# Altium footprint library Components_Lib.PcbLib: 4 footprints
Each footprint in its own frame and in the unit in brackets; x right, y up, seen from the top. Pads: shape width x height; smd on the part's side, far side on the other; paste and mask are expansions set on the pad; w line width, h text height; cw(c..) or ccw(c..) is an arc to the next point about the centre after c.
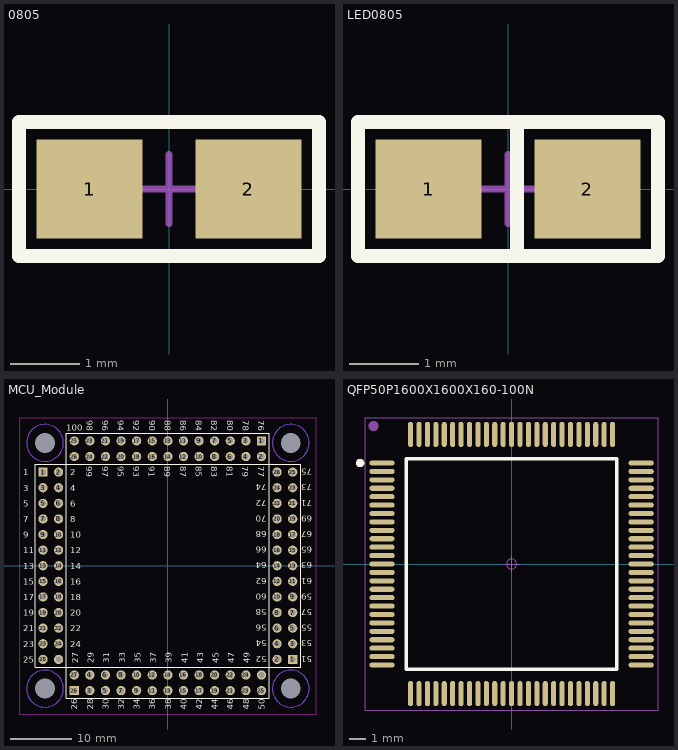
[diagram p0: the footprints below, top view; thin cyan lines are the x and y axes]

## 0805 [mil] "Pasivo 0805"
height 27.56
pads (2):
  rect 60x56 smd: 1(-45,0) 2(45,0)
Top Overlay:
  lines w7.87: -85,-38 85,-38 85,38 -85,38 -85,-38
Mechanical 15:
  lines w3.94: -19.69,0 19.68,0 ; 0,-19.68 0,19.68
3D body "0805.STEP": height 15.35, standoff -0.79, extent -39.5,-24.5 39.24,24.71

## LED0805 [mil] "LED SMD 0805"
height 27.56
pads (2):
  rect 60x56 smd: 1(-45,0) 2(45,0)
Top Overlay:
  lines w7.87: 5,-38 5,38 ; -85,-38 85,-38 85,38 -85,38 -85,-38
Mechanical 15:
  lines w3.94: -19.69,0 19.68,0 ; 0,-19.68 0,19.68
3D body "LED0805.step": height 33.45, standoff 0.23, extent -40.6,-17.68 40.6,18

## MCU_Module [mm]
pads (108):
  round 0 hole 3.25: 0(-20,-20) 0(-20,20) 0(20,-20) 0(20,20)
  rect 1.5x1.5 hole 0.9: 1(-20.32,15.24) 1(15.24,20.32) 1(20.32,-15.24) 26(-15.24,-20.32)
  round 1.5 hole 0.9: 2(-17.78,15.24) 2(15.24,17.78) 2(17.78,-15.24) 3(-20.32,12.7) 3(-12.7,-20.32) 3(12.7,20.32) 3(20.32,-12.7) 4(-17.78,12.7) 4(-12.7,-17.78) 4(12.7,17.78) 4(17.78,-12.7) 5(-20.32,10.16) 5(-10.16,-20.32) 5(10.16,20.32) 5(20.32,-10.16) 6(-17.78,10.16) 6(-10.16,-17.78) 6(10.16,17.78) 6(17.78,-10.16) 7(-20.32,7.62) 7(-7.62,-20.32) 7(7.62,20.32) 7(20.32,-7.62) 8(-17.78,7.62) 8(-7.62,-17.78) 8(7.62,17.78) 8(17.78,-7.62) 9(-20.32,5.08) 9(-5.08,-20.32) 9(5.08,20.32) 9(20.32,-5.08) 10(-17.78,5.08) 10(-5.08,-17.78) 10(5.08,17.78) 10(17.78,-5.08) 11(-20.32,2.54) 11(-2.54,-20.32) 11(2.54,20.32) 11(20.32,-2.54) 12(-17.78,2.54) 12(-2.54,-17.78) 12(2.54,17.78) 12(17.78,-2.54) 13(-20.32,0) 13(0,-20.32) 13(0,20.32) 13(20.32,0) 14(-17.78,0) 14(0,-17.78) 14(0,17.78) 14(17.78,0) 15(-20.32,-2.54) 15(-2.54,20.32) 15(2.54,-20.32) 15(20.32,2.54) 16(-17.78,-2.54) 16(-2.54,17.78) 16(2.54,-17.78) 16(17.78,2.54) 17(-20.32,-5.08) 17(-5.08,20.32) 17(5.08,-20.32) 17(20.32,5.08) 18(-17.78,-5.08) 18(-5.08,17.78) 18(5.08,-17.78) 18(17.78,5.08) 19(-20.32,-7.62) 19(-7.62,20.32) 19(7.62,-20.32) 19(20.32,7.62) 20(-17.78,-7.62) 20(-7.62,17.78) 20(7.62,-17.78) 20(17.78,7.62) 21(-20.32,-10.16) 21(-10.16,20.32) 21(10.16,-20.32) 21(20.32,10.16) 22(-17.78,-10.16) 22(-10.16,17.78) 22(10.16,-17.78) 22(17.78,10.16) 23(-20.32,-12.7) 23(-12.7,20.32) 23(12.7,-20.32) 23(20.32,12.7) 24(-17.78,-12.7) 24(-12.7,17.78) 24(12.7,-17.78) 24(17.78,12.7) 25(-20.32,-15.24) 25(-15.24,20.32) 25(15.24,-20.32) 25(20.32,15.24) 26(-15.24,17.78) 26(17.78,15.24) 27(-15.24,-17.78) ""(-17.78,-15.24) ""(15.24,-17.78)
Bottom Layer keep-out:
  circle w0.15: c20,-20 r3
  circle w0.15: c20,20 r3
  circle w0.15: c-20,20 r3
  circle w0.15: c-20,-20 r3
Top Overlay:
  lines w0.2: -16.51,-16.51 -21.59,-16.51 -21.59,16.51 -16.51,16.51 ; -16.51,-16.51 -16.51,16.51 ; -16.51,-16.51 -16.51,-21.59 16.51,-21.59 16.51,-16.51 ; -16.51,-16.51 16.51,-16.51 ; -16.51,16.51 -16.51,21.59 16.51,21.59 16.51,16.51 ; -16.51,16.51 16.51,16.51 ; 16.51,-16.51 21.59,-16.51 21.59,16.51 16.51,16.51 ; 16.51,-16.51 16.51,16.51
  text "49" at 13.36,-15.9 h1
  text "47" at 10.82,-15.9 h1
  text "50" at 15.76,-23.4 h1
  text "48" at 13.22,-23.4 h1
  text "46" at 10.68,-23.4 h1
  text "45" at 8.28,-15.9 h1
  text "44" at 8.14,-23.4 h1
  text "43" at 5.74,-15.9 h1
  text "42" at 5.6,-23.4 h1
  text "41" at 3.2,-15.9 h1
  text "40" at 3.06,-23.4 h1
  text "39" at 0.66,-15.9 h1
  text "38" at 0.52,-23.4 h1
  text "37" at -1.88,-15.9 h1
  text "36" at -2.02,-23.4 h1
  text "35" at -4.42,-15.9 h1
  text "34" at -4.56,-23.4 h1
  text "33" at -6.96,-15.9 h1
  text "32" at -7.1,-23.4 h1
  text "31" at -9.5,-15.9 h1
  text "30" at -9.64,-23.4 h1
  text "28" at -12.18,-23.4 h1
  text "27" at -14.58,-15.9 h1
  text "1" at -23.5,14.7 h1
  text "25" at -23.5,-15.78 h1
  text "24" at -15.9,-13.24 h1
  text "23" at -23.5,-13.24 h1
  text "22" at -15.9,-10.7 h1
  text "21" at -23.5,-10.7 h1
  text "20" at -15.9,-8.16 h1
  text "19" at -23.5,-8.16 h1
  text "18" at -15.9,-5.62 h1
  text "17" at -23.5,-5.62 h1
  text "16" at -15.9,-3.08 h1
  text "15" at -23.5,-3.08 h1
  text "14" at -15.9,-0.54 h1
  text "13" at -23.5,-0.54 h1
  text "12" at -15.9,2 h1
  text "11" at -23.5,2 h1
  text "10" at -15.9,4.54 h1
  text "9" at -23.5,4.54 h1
  text "8" at -15.9,7.08 h1
  text "7" at -23.5,7.08 h1
  text "6" at -15.9,9.62 h1
  text "5" at -23.5,9.62 h1
  text "4" at -15.9,12.16 h1
  text "3" at -23.5,12.16 h1
  text "2" at -15.9,14.7 h1
  text "76" at 14.72,23.7 h1
  text "77" at 14.68,16.2 h1
  text "78" at 12.18,23.7 h1
  text "79" at 12.14,16.2 h1
  text "80" at 9.64,23.7 h1
  text "81" at 9.6,16.2 h1
  text "82" at 7.1,23.7 h1
  text "83" at 7.06,16.2 h1
  text "84" at 4.56,23.7 h1
  text "85" at 4.52,16.2 h1
  text "86" at 2.02,23.7 h1
  text "87" at 1.98,16.2 h1
  text "88" at -0.52,23.7 h1
  text "89" at -0.56,16.2 h1
  text "90" at -3.06,23.7 h1
  text "91" at -3.1,16.2 h1
  text "92" at -5.6,23.7 h1
  text "93" at -5.64,16.2 h1
  text "94" at -8.14,23.7 h1
  text "95" at -8.18,16.2 h1
  text "96" at -10.68,23.7 h1
  text "97" at -10.72,16.2 h1
  text "98" at -13.22,23.7 h1
  text "99" at -13.26,16.2 h1
  text "100" at -16.5,22 h1
  text "52" at 16.1,-14.7 h1
  text "53" at 23.5,-12.16 h1
  text "54" at 16.1,-12.16 h1
  text "55" at 23.5,-9.62 h1
  text "56" at 16.1,-9.62 h1
  text "57" at 23.5,-7.08 h1
  text "58" at 16.1,-7.08 h1
  text "59" at 23.5,-4.54 h1
  text "60" at 16.1,-4.54 h1
  text "61" at 23.5,-2 h1
  text "62" at 16.1,-2 h1
  text "63" at 23.5,0.54 h1
  text "64" at 16.1,0.54 h1
  text "65" at 23.5,3.08 h1
  text "66" at 16.1,3.08 h1
  text "67" at 23.5,5.62 h1
  text "68" at 16.1,5.62 h1
  text "69" at 23.5,8.16 h1
  text "70" at 16.1,8.16 h1
  text "71" at 23.5,10.7 h1
  text "72" at 16.1,10.7 h1
  text "73" at 23.5,13.24 h1
  text "74" at 16.1,13.24 h1
  text "75" at 23.5,15.78 h1
  text "51" at 23.5,-14.7 h1
  text "29" at -12.04,-15.9 h1
  text "26" at -14.72,-23.4 h1
Bottom Overlay:
  lines w0.15: -7.6,-5.43 -7.2,-5.43 ; -7.6,-4.63 -7.2,-4.63 ; -7.6,-3.83 -7.2,-3.83 ; -7.6,-3.03 -7.2,-3.03 ; -7.6,-0.83 -7.2,-0.83 ; -7.6,-0.03 -7.2,-0.03 ; -7.6,0.77 -7.2,0.77 ; -7.6,1.57 -7.2,1.57 ; -7.6,2.87 -7.2,2.87 ; -7.6,3.67 -7.2,3.67 ; -5.7,-7.63 -5.7,-7.23 ; -4.9,-7.63 -4.9,-7.23 ; -4.1,-7.63 -4.1,-7.23 ; -3.3,-7.63 -3.3,-7.23 ; -0.9,7.17 -0.9,7.57 ; -0.1,7.17 -0.1,7.57 ; 0.4,-7.73 0.4,-7.33 ; 1.2,-7.73 1.2,-7.33 ; 4.5,-5.9 4.9,-5.9 ; 4.5,-5.1 4.9,-5.1 ; 7.1,-0.93 7.5,-0.93 ; 7.1,-0.13 7.5,-0.13 ; 7.1,6.17 7.5,6.17 ; 7.1,6.97 7.5,6.97
Keep-Out Layer:
  lines w0.2: -24.13,-24.13 -24.13,24.13 24.13,24.13 24.13,-24.13 -24.13,-24.13

## QFP50P1600X1600X160-100N [mm] "QFP,0.50mm pitch,square;100 pin,14.00mm L X 14.00mm W X 1.60mm H body"
height 1.6
pads (100):
  oval 1.5x0.3 smd: 1(-7.7,6) 2(-7.7,5.5) 3(-7.7,5) 4(-7.7,4.5) 5(-7.7,4) 6(-7.7,3.5) 7(-7.7,3) 8(-7.7,2.5) 9(-7.7,2) 10(-7.7,1.5) 11(-7.7,1) 12(-7.7,0.5) 13(-7.7,0) 14(-7.7,-0.5) 15(-7.7,-1) 16(-7.7,-1.5) 17(-7.7,-2) 18(-7.7,-2.5) 19(-7.7,-3) 20(-7.7,-3.5) 21(-7.7,-4) 22(-7.7,-4.5) 23(-7.7,-5) 24(-7.7,-5.5) 25(-7.7,-6) 51(7.7,-6) 52(7.7,-5.5) 53(7.7,-5) 54(7.7,-4.5) 55(7.7,-4) 56(7.7,-3.5) 57(7.7,-3) 58(7.7,-2.5) 59(7.7,-2) 60(7.7,-1.5) 61(7.7,-1) 62(7.7,-0.5) 63(7.7,0) 64(7.7,0.5) 65(7.7,1) 66(7.7,1.5) 67(7.7,2) 68(7.7,2.5) 69(7.7,3) 70(7.7,3.5) 71(7.7,4) 72(7.7,4.5) 73(7.7,5) 74(7.7,5.5) 75(7.7,6)
  oval 0.3x1.5 smd: 26(-6,-7.7) 27(-5.5,-7.7) 28(-5,-7.7) 29(-4.5,-7.7) 30(-4,-7.7) 31(-3.5,-7.7) 32(-3,-7.7) 33(-2.5,-7.7) 34(-2,-7.7) 35(-1.5,-7.7) 36(-1,-7.7) 37(-0.5,-7.7) 38(0,-7.7) 39(0.5,-7.7) 40(1,-7.7) 41(1.5,-7.7) 42(2,-7.7) 43(2.5,-7.7) 44(3,-7.7) 45(3.5,-7.7) 46(4,-7.7) 47(4.5,-7.7) 48(5,-7.7) 49(5.5,-7.7) 50(6,-7.7) 76(6,7.7) 77(5.5,7.7) 78(5,7.7) 79(4.5,7.7) 80(4,7.7) 81(3.5,7.7) 82(3,7.7) 83(2.5,7.7) 84(2,7.7) 85(1.5,7.7) 86(1,7.7) 87(0.5,7.7) 88(0,7.7) 89(-0.5,7.7) 90(-1,7.7) 91(-1.5,7.7) 92(-2,7.7) 93(-2.5,7.7) 94(-3,7.7) 95(-3.5,7.7) 96(-4,7.7) 97(-4.5,7.7) 98(-5,7.7) 99(-5.5,7.7) 100(-6,7.7)
Top Overlay:
  circle w0.25: c-9,6 r0.125
  lines w0.2: -6.25,-6.25 -6.25,6.25 6.25,6.25 6.25,-6.25 -6.25,-6.25
Mechanical 15:
  circle w0.406: c-8.2,8.2 r0.1
  circle w0.05: c0,0 r0.3
  lines w0.05: -0.5,0 0.5,0 ; 0,-0.5 0,0.5 ; -8.7,-8.7 -8.7,8.7 8.7,8.7 8.7,-8.7 -8.7,-8.7
  text ".Designator" at -8.3,-8.1 h1
3D body: height 1.6, standoff 0, extent -7,-7 7,7